# Altium schematic symbol library Library.SchLib: 13 symbols
Pins are listed as number, name and electrical type; pins without a type are passive.

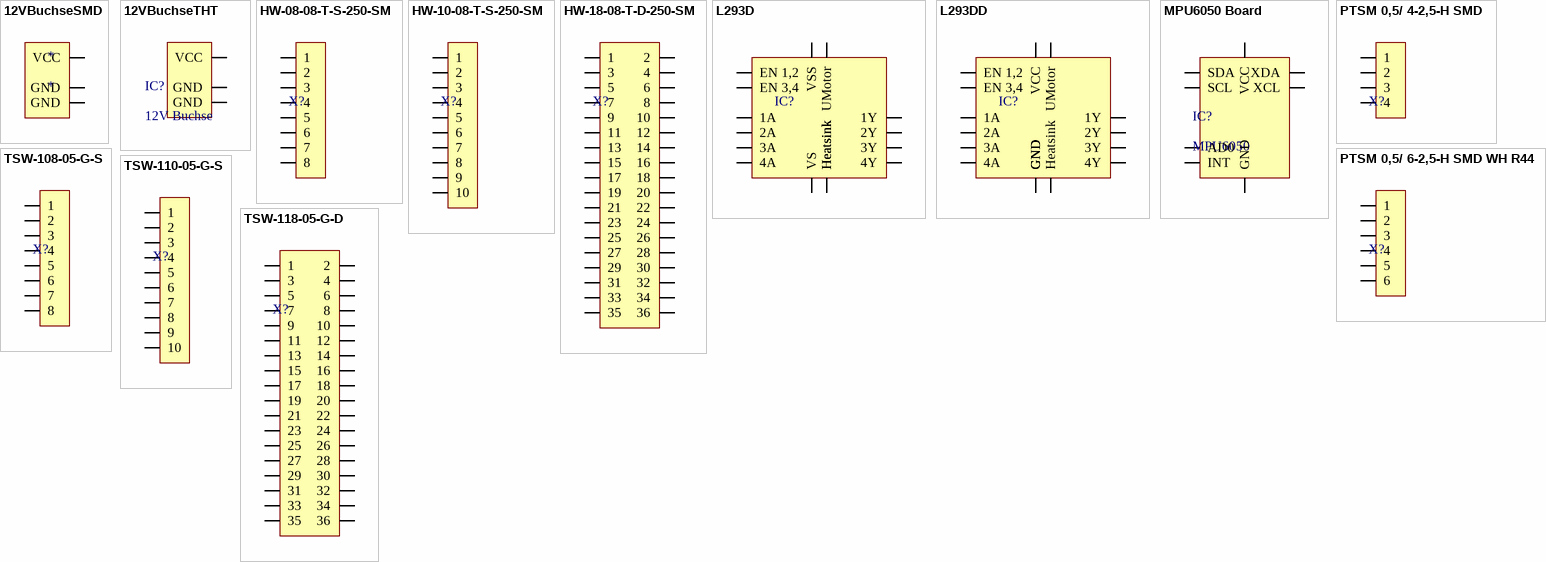
[diagram p0: symbols 12VBuchseSMD to TSW-118-05-G-D]

## 12VBuchseSMD
designator *
Part Number: RASM722
footprint RASM712
pins: 1 GND, 2 GND, 3 VCC

## 12VBuchseTHT
designator IC?, comment 12V Buchse
Part Number: RAPC722
footprint RAPC722
pins: 1 VCC, 2 GND, 3 GND

## HW-08-08-T-S-250-SM
designator X?, comment Pin Header 6x1 2.54mm  (value not drawn)
Pin Header 8x1 2.54mm SMD; Manufacturer: Samtec; Part Number: HW-08-08-T-S-250-SM; Supplier 1: Mouser; Supplier Part Number 1: 200-TSW10607GS; Price: 0.82
footprint HW-08-08-T-S-250-SM (8 Pol SMD)
pins: 1, 2, 3, 4, 5, 6, 7, 8

## HW-10-08-T-S-250-SM
designator X?, comment Pin Header 10x1 2.54mm SMD  (value not drawn)
Manufacturer: Samtec; Part Number: HW-10-08-T-S-250-SM; Supplier 1: Mouser; Supplier Part Number 1: 200-TSW10607GS; Price: 0.82
footprint HW-10-08-T-S-250-SM (8 Pol SMD)
pins: 1, 2, 3, 4, 5, 6, 7, 8, 9, 10

## HW-18-08-T-D-250-SM
designator X?, comment Pin Header 18x2 2.54mm  (value not drawn)
Pin Header 16x2 2.54mm SMD; Manufacturer: Samtec; Part Number: HW-18-08-T-D-250-SM; Supplier 1: Mouser; Supplier Part Number 1: 200-TSW10607GS; Price: 0.82
footprint HW-18-08-T-D-250-SM (36 Pol SMD)
pins: 1, 2, 3, 4, 5, 6, 7, 8, 9, 10, 11, 12, 13, 14, 15, 16, 17, 18, 19, 20, 21, 22, 23, 24, 25, 26, 27, 28, 29, 30, 31, 32, 33, 34, 35, 36

## L293D
designator IC?  (value not drawn)
Motor Driver, 1.2A Output
footprint DIP16
pins: 1 EN 1,2, 2 1A, 3 1Y, 4 Heatsink, 5 Heatsink, 6 2Y, 7 2A, 8 VS, 9 EN 3,4, 10 3A, 10 UMotor, 11 3Y, 12 Heatsink, 13 Heatsink, 14 4Y, 15 4A, 16 VSS

## L293DD
designator IC?  (value not drawn)
Motor Driver, 600mA Output
footprint SOIC127P1030X265_HS-21N (SOIC, 20-Leads, Body 11.50x7.40mm, Pitch 1.27mm, Thermal Pad 10.00x5.00mm, IPC Medium Density)
pins: 1 EN 1,2, 2 1A, 3 1Y, 4 GND, 5 GND, 6 GND, 7 GND, 8 2Y, 9 2A, 10 UMotor, 11 EN 3,4, 12 3A, 13 3Y, 14 GND, 15 GND, 16 GND, 17 GND, 18 4Y, 19 4A, 20 VCC, 21 Heatsink

## MPU6050 Board
designator IC?, comment MPU6050
MPU6050 Sensor Board
footprint MPU6050-Board
pins: 1 VCC, 2 GND, 3 SCL, 4 SDA, 5 XDA, 6 XCL, 7 AD0, 8 INT

## PTSM 0,5/ 4-2,5-H SMD
designator X?, comment Pin Header 4x1 2.54mm  (value not drawn)
PTSM 4 Pol; Manufacturer: Phoenix Contacdt; Part Number: 1814650; Supplier 1: Mouser; Supplier Part Number 1: 651-1814650; Price: 1.31
footprint PTSM 0,5 4-2,5-H SMD (4 Pol SMD)
pins: 1, 2, 3, 4

## PTSM 0,5/ 6-2,5-H SMD WH R44
designator X?, comment Pin Header 6x1 2.54mm  (value not drawn)
PTSM 6 Pol; Manufacturer: Phoenix Contacdt; Part Number: 651-1814676; Supplier 1: Mouser; Supplier Part Number 1: 651-1814676; Price: 1.31
footprint PTSM 0,5 6-2,5-H SMD (6 Pol SMD)
pins: 1, 2, 3, 4, 5, 6

## TSW-108-05-G-S
designator X?, comment Pin Header 6x1 2.54mm  (value not drawn)
Pin Header 8x1 2.54mm; Manufacturer: Samtec; Part Number: TSW-106-07-G-S; Supplier 1: Mouser; Supplier Part Number 1: 200-TSW10607GS; Price: 0.82
footprint TSW-108-05-G-S (Pin Header 8x1 2.54mm)
pins: 1, 2, 3, 4, 5, 6, 7, 8

## TSW-110-05-G-S
designator X?, comment Pin Header 6x1 2.54mm  (value not drawn)
Pin Header 10x1 2.54mm; Manufacturer: Samtec; Part Number: TSW-110-05-G-S; Supplier 1: Mouser; Supplier Part Number 1: 200-TSW10607GS; Price: 0.82
footprint TSW-110-05-G-S (Pin Header 10x1 2.54mm)
pins: 1, 2, 3, 4, 5, 6, 7, 8, 9, 10

## TSW-118-05-G-D
designator X?, comment Pin Header 18x2 2.54mm  (value not drawn)
Manufacturer: Samtec; Part Number: TSW-118-05-G-D; Supplier 1: Mouser; Supplier Part Number 1: 200-TSW10607GS; Price: 0.82
footprint TSW-118-05-G-D (Pin Header 18x2 2.54mm)
pins: 1, 2, 3, 4, 5, 6, 7, 8, 9, 10, 11, 12, 13, 14, 15, 16, 17, 18, 19, 20, 21, 22, 23, 24, 25, 26, 27, 28, 29, 30, 31, 32, 33, 34, 35, 36